# Altium footprint library 1-796642-2.PcbLib: 1 footprints
Each footprint in its own frame and in the unit in brackets; x right, y up, seen from the top. Pads: shape width x height; smd on the part's side, far side on the other; paste and mask are expansions set on the pad; w line width, h text height; cw(c..) or ccw(c..) is an arc to the next point about the centre after c.
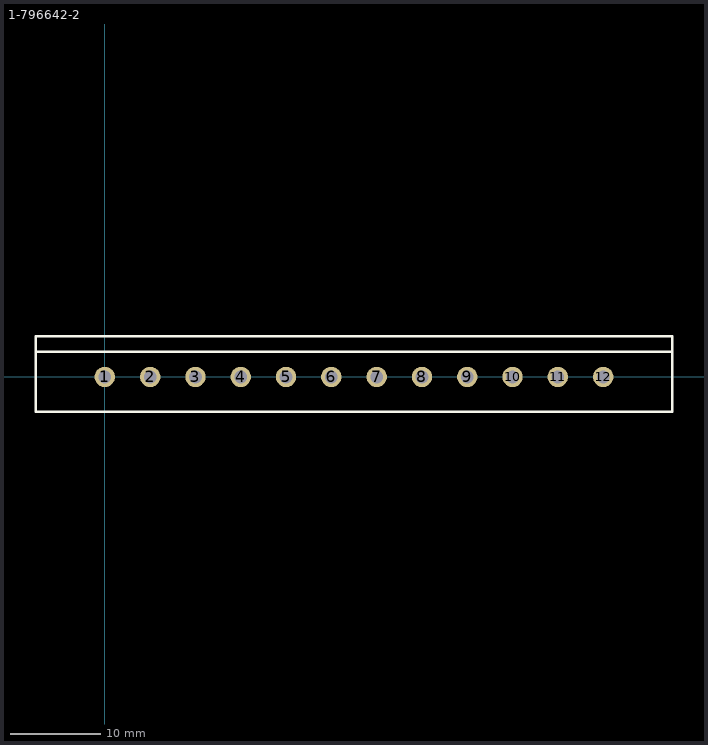
[diagram p0: the footprint, top view; thin cyan lines are the x and y axes]

## 1-796642-2 [mm] "12pos 5.00mm Eurostyle (Phoenix) terminal block header"
pads (12):
  round 2.25 hole 1.4: 1(0,0) 2(5,0) 3(10,0) 4(15,0) 5(20,0) 6(25,0) 7(30,0) 8(35,0) 9(40,0) 10(45,0) 11(50,0) 12(55,0)
Top Overlay:
  lines w0.254: -7.62,2.769 62.62,2.769 ; -7.62,-3.85 -7.62,4.5 62.62,4.5 62.62,-3.85 -7.62,-3.85
3D body: height 12, standoff -3.5, extent -3.75,-3.86 58.25,4.49